# EAGLE library part MCP2200 (library futz)
Microchip MCP2200 USB 2.0 to UART - SOIC20
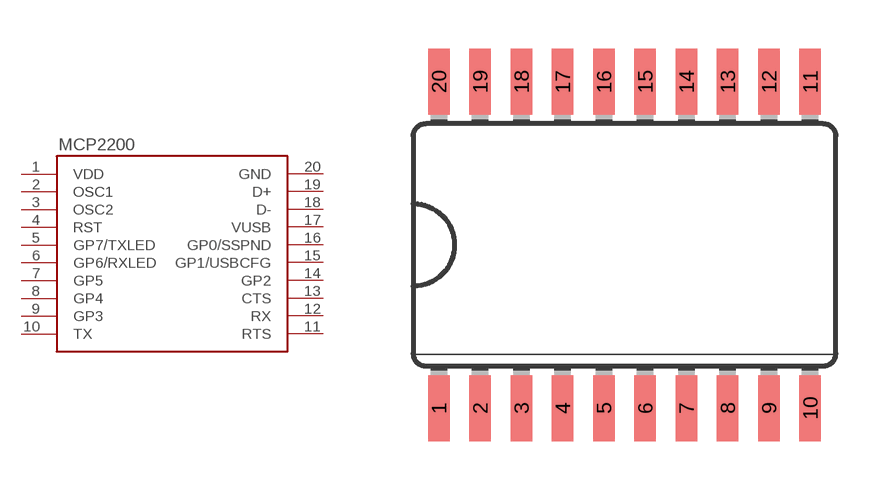
[diagram p13: symbol with the pads of SO20L; footprint SO20L]

Designator prefix -

## MCP2200  [SO20L]
1  VDD
2  OSC1
3  OSC2
4  RST
5  GP7/TXLED
6  GP6/RXLED
7  GP5
8  GP4
9  GP3
10  TX
11  RTS
12  RX
13  CTS
14  GP2
15  GP1/USBCFG
16  GP0/SSPND
17  VUSB
18  D-
19  D+
20  GND

## Footprint SO20L (pad centres in mm)
smd 0.66 x 2.032: 1 -5.715,-5.029; 2 -4.445,-5.029; 3 -3.175,-5.029; 4 -1.905,-5.029; 5 -0.635,-5.029; 6 0.635,-5.029; 7 1.905,-5.029; 8 3.175,-5.029; 9 4.445,-5.029; 10 5.715,-5.029; 11 5.715,5.029; 12 4.445,5.029; 13 3.175,5.029; 14 1.905,5.029; 15 0.635,5.029; 16 -0.635,5.029; 17 -1.905,5.029; 18 -3.175,5.029; 19 -4.445,5.029; 20 -5.715,5.029